# EAGLE library part BQ27441-G1 (library Cerebro-library)
Texas Instruments BQ27441-G1 LiPo Battery Fuel Gauge The Texas Instruments bq27441-G1 fuel gauge is a microcontroller peripheral that provides system-side fuel gauging for single-cell Li-Ion batteries. The device requires minimal user configuration and system microcontroller firmware development. The bq27441-G1 battery fuel gauge uses the patented Impedance Track™ algorithm for fuel gauging, and provides information such as remaining battery capacity (mAh), state-of-charge (%), and battery voltage (mV). Datasheet <http://www.ti.com/product/BQ27441-G1/datasheet> SparkFun Products SparkFun Battery Babysitter <https://www.sparkfun.com/products/13777> (PRT-13777)
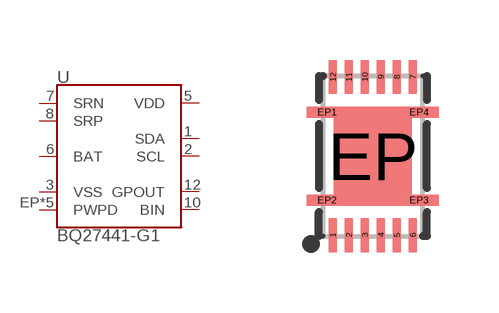
[diagram p6: symbol with the pads of PDSO-N12; footprint PDSO-N12]

Designator prefix U

## BQ27441-G1 (PROD_ID: IC-13220)  [PDSO-N12]
1  SDA
2  SCL
3  VSS
5  VDD
6  BAT
7  SRN
8  SRP
10  BIN
12  GPOUT
EP  PWPD
EP1  PWPD
EP2  PWPD
EP3  PWPD
EP4  PWPD

## Footprint PDSO-N12 (pad centres in mm)
12-Pin VSON 2.5 x 4.0 mm IC Dimensions: 2.5 x 4.0 x 1.0 mm Pitch: 0.4mm Pins: 12 + Bottom Pad Used by the BQ27441 LiPo Fuel Gauge Example Datasheet <http://www.ti.com/lit/ds/symlink/bq27441-g1.pdf>
smd 0.2 x 0.85: 1 -1,-1.975; 2 -0.6,-1.975; 3 -0.2,-1.975; 4 0.2,-1.975; 5 0.6,-1.975; 6 1,-1.975; 7 1,1.975; 8 0.6,1.975; 9 0.2,1.975; 10 -0.2,1.975; 11 -0.6,1.975; 12 -1,1.975
smd 1.95 x 1.95: EP 0,0
smd 1 x 0.25: EP1 -1.15,1.1; EP2 -1.15,-1.1; EP3 1.15,-1.1; EP4 1.15,1.1